# EAGLE library part 690367282276 (library Board-to-Board (rev18a))
WR-MM Female SMT Connector with Polarization, 22 Pins=>Code : Con_BTB_MM_Female_SMT_690367282276 <http://katalog.we-online.de/media/thumbs2/eican/thb_Con_BTB_MM_Female_SMT_69036728xx76_pf2.jpg> Details see: http://katalog.we-online.de/en/em/6903_6728_xx_76 Created 2014-06-04, Karrer Zheng 2014 (C) Würth Elektronik
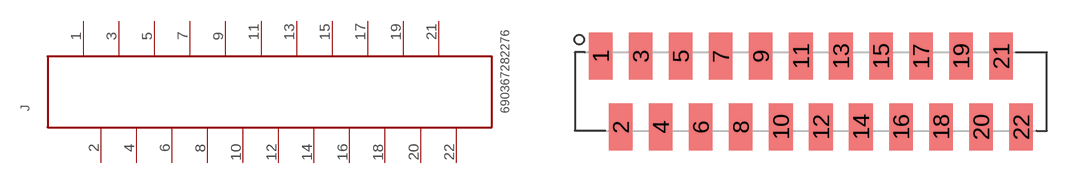
[diagram p357: symbol with the pads of 690367282276; footprint 690367282276]

Designator prefix J

## 690367282276  [690367282276]
1  22  pas
2  21  pas
3  20  pas
4  19  pas
5  18  pas
6  17  pas
7  16  pas
8  15  pas
9  14  pas
10  13  pas
11  12  pas
12  11  pas
13  10  pas
14  9  pas
15  8  pas
16  7  pas
17  6  pas
18  5  pas
19  4  pas
20  3  pas
21  2  pas
22  1  pas

## Footprint 690367282276 (pad centres in mm)
WR-MM Female SMT Connector with Polarization, 22 pins
smd 1.5 x 3: 1 -13.335,2.25; 2 -12.065,-2.25; 3 -10.795,2.25; 4 -9.525,-2.25; 5 -8.255,2.25; 6 -6.985,-2.25; 7 -5.715,2.25; 8 -4.445,-2.25; 9 -3.175,2.25; 10 -1.905,-2.25; 11 -0.635,2.25; 12 0.635,-2.25; 13 1.905,2.25; 14 3.175,-2.25; 15 4.445,2.25; 16 5.715,-2.25; 17 6.985,2.25; 18 8.255,-2.25; 19 9.525,2.25; 20 10.795,-2.25; 21 12.065,2.25; 22 13.335,-2.25